# Altium schematic symbol library PEF7071.SchLib: 1 symbol
Pins are listed as number, name and electrical type; pins without a type are passive.

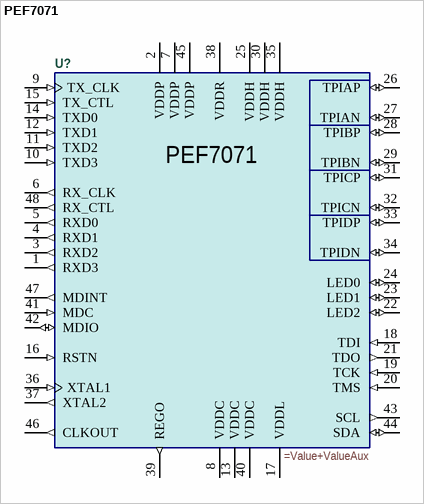
[diagram p0: symbol PEF7071]

## PEF7071
designator U?
=Description
pins: 1 RXD3 (out), 2 VDDP (power), 3 RXD2 (out), 4 RXD1 (out), 5 RXD0 (out), 6 RX_CLK (out), 7 VDDP (power), 8 VDDC (power), 9 TX_CLK (in), 10 TXD3 (in), 11 TXD2 (in), 12 TXD1 (in), 13 VDDC (power), 14 TXD0 (in), 15 TX_CTL (in), 16 RSTN (in), 17 VDDL (power), 18 TDI (in), 19 TCK (in), 20 TMS (in), 21 TDO (out), 22 LED2 (io), 23 LED1 (io), 24 LED0 (io), 25 VDDH (power), 26 TPIAP (io), 27 TPIAN (io), 28 TPIBP (io), 29 TPIBN (io), 30 VDDH (power), 31 TPICP (io), 32 TPICN (io), 33 TPIDP (io), 34 TPIDN (io), 35 VDDH (power), 36 XTAL1 (in), 37 XTAL2 (out), 38 VDDR (power), 39 REGO (out), 40 VDDC (power), 41 MDC (in), 42 MDIO (io), 43 SCL (out), 44 SDA (io), 45 VDDP (power), 46 CLKOUT (out), 47 MDINT (out), 48 RX_CTL (out)